# Altium footprint library LM317T.PcbLib: 2 footprints
Each footprint in its own frame and in the unit in brackets; x right, y up, seen from the top. Pads: shape width x height; smd on the part's side, far side on the other; paste and mask are expansions set on the pad; w line width, h text height; cw(c..) or ccw(c..) is an arc to the next point about the centre after c.
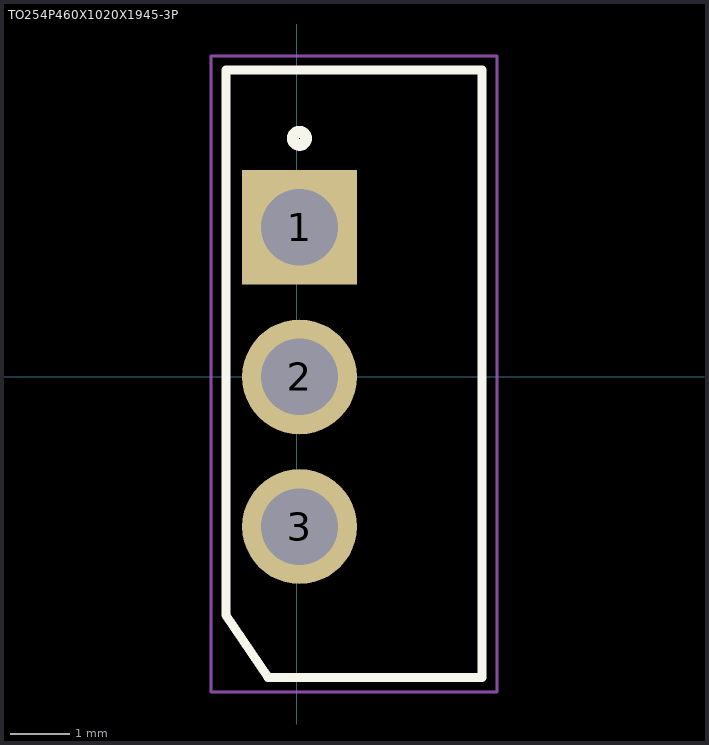
[diagram p0: the footprints below, top view; thin cyan lines are the x and y axes]

## PCBComponent_1 [mm]

## TO254P460X1020X1945-3P [mm]
pads (3):
  rect 1.95x1.95 hole 1.3: 1(0.051,2.54)
  round 1.95 hole 1.3: 2(0.051,0) 3(0.051,-2.54)
Top Overlay:
  circle w0.2: c0.05,4.05 r0.112
  lines w0.152: -1.2,-4.039 -1.2,5.207 3.15,5.207 3.15,-5.1 -0.483,-5.1 -1.2,-4.039
Mechanical 4:
  lines w0.05: -1.45,-5.35 -1.45,5.45 3.4,5.45 3.4,-5.35 -1.45,-5.35